# EAGLE library part C8051F320 (library cygnal_mini)
Cygnal C8051F320 USB microcontroller
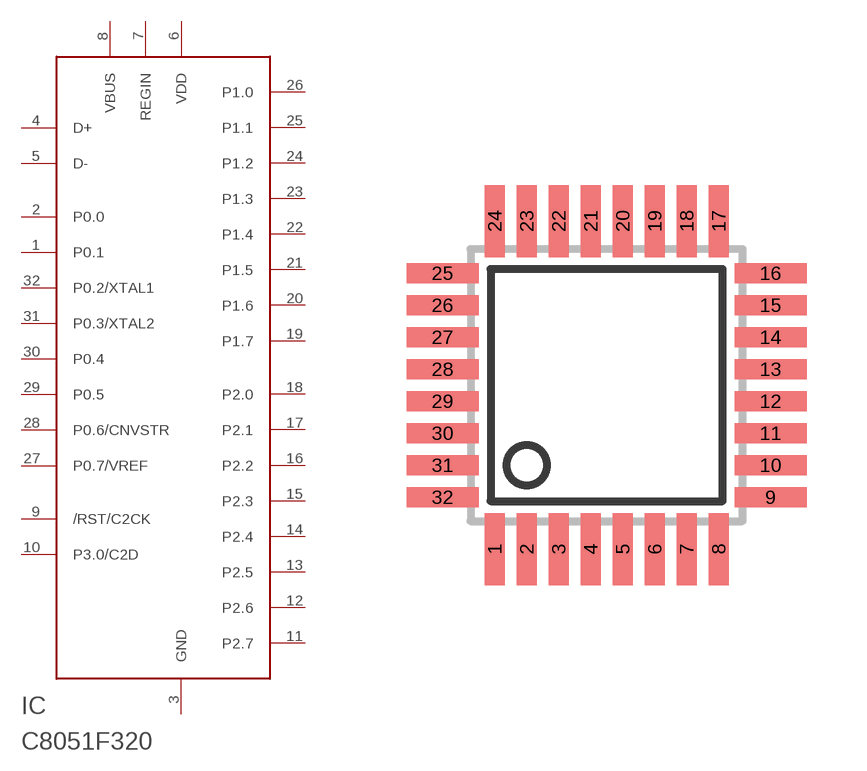
[diagram p4: symbol with the pads of LQFP32; footprint LQFP32]

Designator prefix IC

## C8051F320  [LQFP32]
1  P0.1
2  P0.0
3  GND  pwr
4  D+
5  D-
6  VDD  pwr
7  REGIN
8  VBUS
9  /RST/C2CK
10  P3.0/C2D
11  P2.7
12  P2.6
13  P2.5
14  P2.4
15  P2.3
16  P2.2
17  P2.1
18  P2.0
19  P1.7
20  P1.6
21  P1.5
22  P1.4
23  P1.3
24  P1.2
25  P1.1
26  P1.0
27  P0.7/VREF
28  P0.6/CNVSTR
29  P0.5
30  P0.4
31  P0.3/XTAL2
32  P0.2/XTAL1

## Footprint LQFP32 (pad centres in mm)
Cygnal LQFP32
smd 0.5 x 1.8: 1 -2.8,-4.1; 2 -2,-4.1; 3 -1.2,-4.1; 4 -0.4,-4.1; 5 0.4,-4.1; 6 1.2,-4.1; 7 2,-4.1; 8 2.8,-4.1; 17 2.8,4.1; 18 2,4.1; 19 1.2,4.1; 20 0.4,4.1; 21 -0.4,4.1; 22 -1.2,4.1; 23 -2,4.1; 24 -2.8,4.1
smd 1.8 x 0.5: 9 4.1,-2.8; 10 4.1,-2; 11 4.1,-1.2; 12 4.1,-0.4; 13 4.1,0.4; 14 4.1,1.2; 15 4.1,2; 16 4.1,2.8; 25 -4.1,2.8; 26 -4.1,2; 27 -4.1,1.2; 28 -4.1,0.4; 29 -4.1,-0.4; 30 -4.1,-1.2; 31 -4.1,-2; 32 -4.1,-2.8